# Altium footprint library Wurth_Elektronik_Passive_rev16a.PCBLIB: 810 footprints (part 38 of 51)
Each footprint in its own frame and in the unit in brackets; x right, y up, seen from the top. Pads: shape width x height; smd on the part's side, far side on the other; paste and mask are expansions set on the pad; w line width, h text height; cw(c..) or ccw(c..) is an arc to the next point about the centre after c.
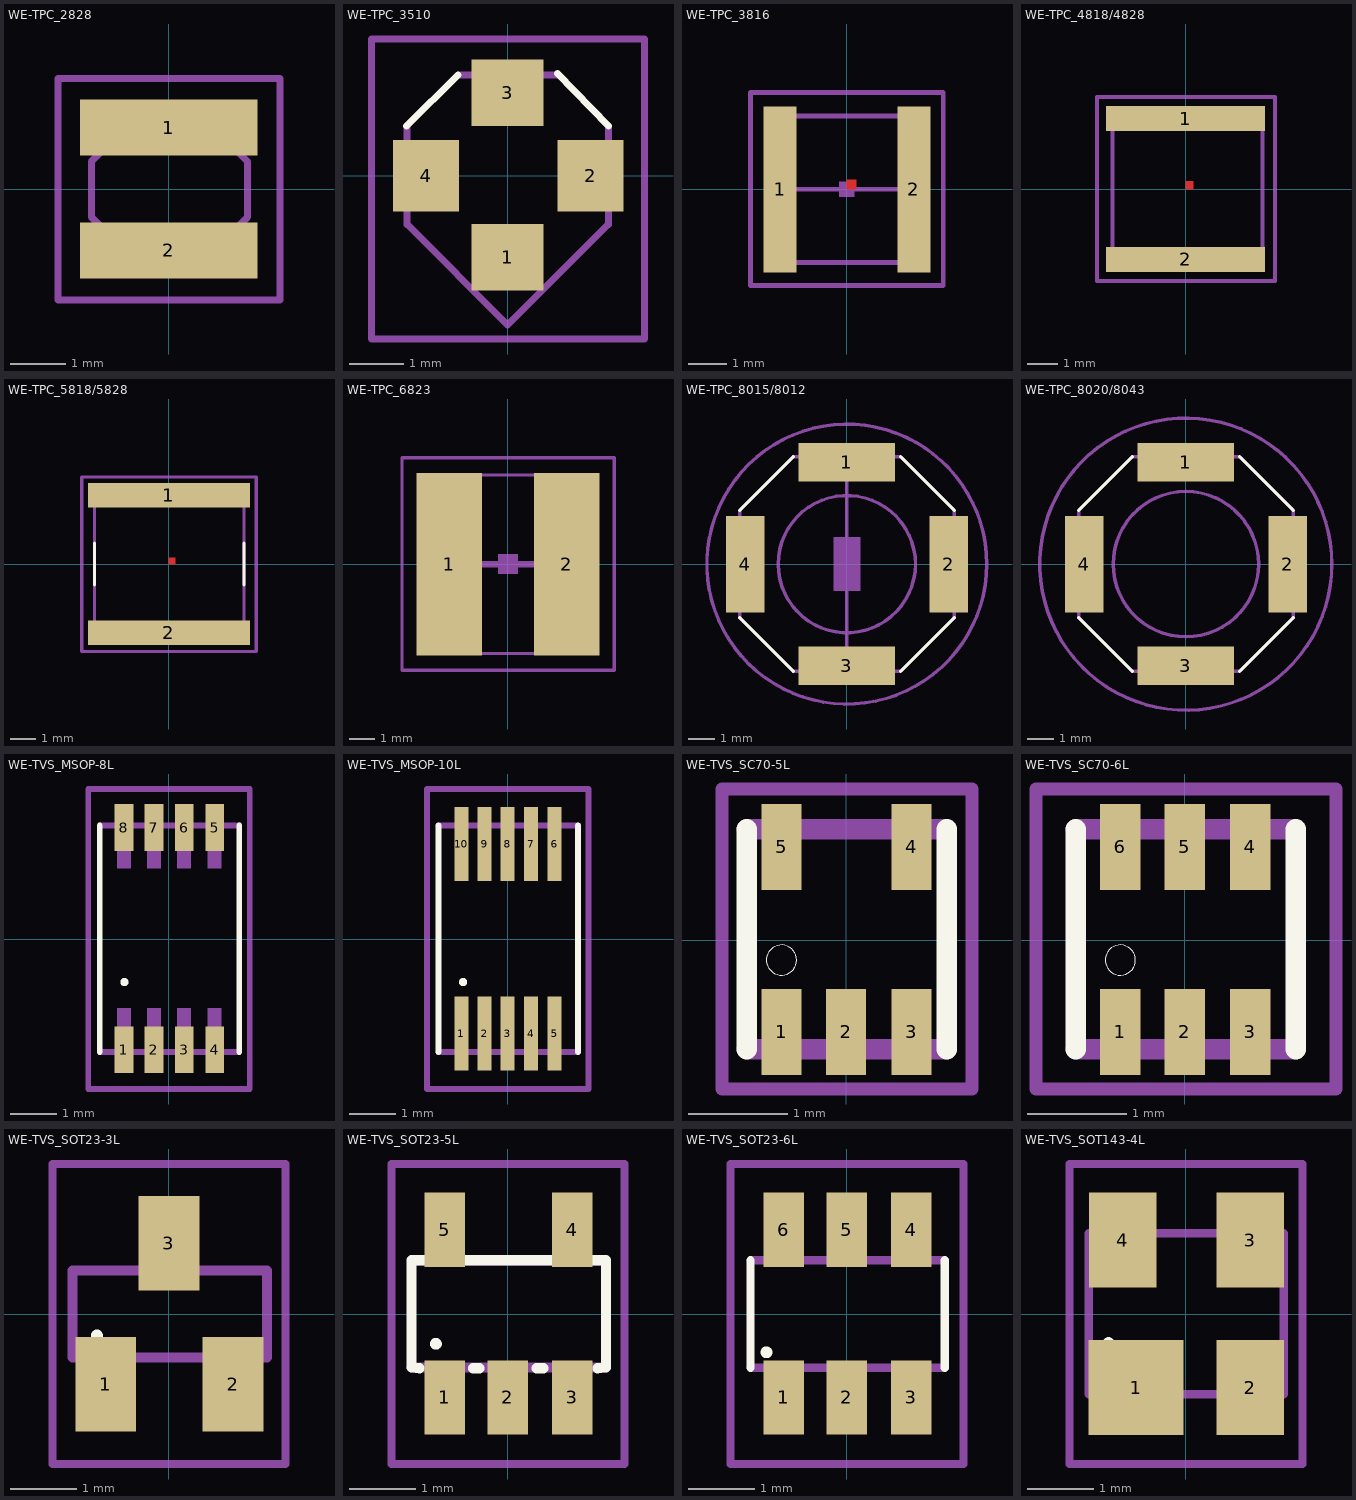
[diagram p37: the footprints below, top view; thin cyan lines are the x and y axes]

## WE-TPC_2828 [mil]
pads (2):
  rect 126x40 smd: 1(0,44) 2(0,-43.31)
Mechanical 2:
  text ">NAME" at -118.11,79 h77.5
Mechanical 4:
  text ">VALUE" at -137.8,-137.8 h77.5
Mechanical 16:
  lines w5: -55.12,-19.68 -55.12,20 -19.68,56 20,56 56,20 56,-19.68 20,-55.12 -19.68,-55.12 -55.12,-19.68
Mechanical 27:
  lines w5: -78.74,-78.74 79,-78.74 79,79 -78.74,79 -78.74,-78.74

## WE-TPC_3510 [mil]
pads (4):
  rect 52x48 smd: 1(0,-59.06) 3(0,60)
  rect 48x52 smd: 2(60,0) 4(-59.06,0)
Top Overlay:
  lines w5: -73.23,36 -35.83,73 ; 36,74 73,36 ; 73,36 73,36
Mechanical 2:
  text ">NAME" at -116.14,93 h77.5
Mechanical 4:
  text ">VALUE" at -116.14,-173.23 h77.5
Mechanical 16:
  lines w5: -72.83,-35.43 -72.83,-35.04 ; -72.83,36 -72.83,-35.04 ; -35.43,73 36,73 ; 73,-35.43 73,-35.04 ; 73,36 73,-35.04 ; -72.83,-35.04 0,-107.87 73,-35.04
Mechanical 27:
  lines w5: -98.43,-118.11 99,-118.11 99,99 -98.43,99 -98.43,-118.11

## WE-TPC_3816 [mil]
pads (2):
  rect 34x170 smd: 1(-68.15,0) 2(69,0)
Top Layer:
  region: 0,0 10,0 10,10 0,10
  region: 0,0 10,0 10,10 0,10
  region: 0,0 10,0 10,10 0,10
  region: 0,0 10,0 10,10 0,10
Top Paste:
  region: 0,0 10,0 10,10 0,10
  region: 0,0 10,0 10,10 0,10
  region: 0,0 10,0 10,10 0,10
  region: 0,0 10,0 10,10 0,10
Top Solder:
  region: 0,0 10,0 10,10 0,10
  region: 0,0 10,0 10,10 0,10
  region: 0,0 10,0 10,10 0,10
  region: 0,0 10,0 10,10 0,10
Mechanical 2:
  text ">NAME" at -150,-150 h77.5
Mechanical 4:
  text ">VALUE" at -150,100 h77.5
Mechanical 16:
  region: 8,-7.87 8,8 -7.87,8 -7.87,-7.87
  lines w5: -51.18,0 52,0 ; -74.8,-74.8 75,-74.8 75,75 -74.8,75 -74.8,-74.8
Mechanical 27:
  lines w5: -98.43,-98.43 99,-98.43 99,99 -98.43,99 -98.43,-98.43

## WE-TPC_4818/4828 [mil]
pads (2):
  rect 205x32 smd: 1(0,91) 2(0,-90.55)
Top Layer:
  region: 0,0 10,0 10,10 0,10
  region: 0,0 10,0 10,10 0,10
Top Paste:
  region: 0,0 10,0 10,10 0,10
  region: 0,0 10,0 10,10 0,10
Top Solder:
  region: 0,0 10,0 10,10 0,10
  region: 0,0 10,0 10,10 0,10
Mechanical 2:
  text ">NAME" at -142.13,-176.38 h77.5
Mechanical 4:
  text ">VALUE" at -142.13,127 h77.5
Mechanical 16:
  lines w5: 95,-94.49 -94.49,-94.49 -94.49,95 95,95 ; 99,-94.49 99,95
Mechanical 27:
  lines w5: -114.17,-118.11 115,-118.11 115,119 -114.17,119 -114.17,-118.11

## WE-TPC_5818/5828 [mil]
pads (2):
  rect 249x38 smd: 1(0,106) 2(0,-105.31)
Top Layer:
  region: 0,0 10,0 10,10 0,10
  region: 0,0 10,0 10,10 0,10
Top Overlay:
  lines w5: -114.17,-31.5 -114.17,32 ; 115,-31.5 115,32
Top Paste:
  region: 0,0 10,0 10,10 0,10
  region: 0,0 10,0 10,10 0,10
Top Solder:
  region: 0,0 10,0 10,10 0,10
  region: 0,0 10,0 10,10 0,10
Mechanical 2:
  text ">NAME" at -137.8,142 h77.5
Mechanical 4:
  text ">VALUE" at -137.8,-196.85 h77.5
Mechanical 16:
  lines w5: -114.17,-114.17 115,-114.17 115,115 -114.17,115 -114.17,-114.17
Mechanical 27:
  lines w5: -133.86,-133.86 134,-133.86 134,134 -133.86,134 -133.86,-133.86

## WE-TPC_6823 [mil]
pads (2):
  rect 103x288 smd: 1(-92.52,0) 2(93,0)
Mechanical 2:
  text ">NAME" at -150,-250 h77.5
Mechanical 4:
  text ">VALUE" at -150,200 h77.5
Mechanical 16:
  region: 16,-15.75 16,16 -15.75,16 -15.75,-15.75
  lines w5: -134.75,-140.87 135,-140.87 135,141 -134.75,141 -134.75,-140.87
  lines w10: -92.52,0 93,0
Mechanical 27:
  lines w5: -167.32,-167.32 168,-167.32 168,168 -167.32,168 -167.32,-167.32

## WE-TPC_8015/8012 [mil]
pads (4):
  rect 142x56 smd: 1(0,150) 3(0,-149.61)
  rect 56x142 smd: 2(150,0) 4(-149.61,0)
Top Overlay:
  lines w5: -157.48,-78.74 -78.74,-157.48 ; -157.48,79 -78.74,158 ; 79,-157.48 158,-78.74 ; 79,158 158,79
Mechanical 2:
  text ">NAME" at -196.85,-118.11 h77.5
Mechanical 4:
  text ">VALUE" at 197,119 h77.5
Mechanical 10:
  circle w5: c0,0 r101
Mechanical 16:
  rectangle: -19.68,-39.37 20,40
  lines w5: -157.48,-78.74 -157.48,79 ; -78.74,-157.48 79,-157.48 ; -78.74,158 79,158 ; 0,-157.48 0,158 ; 158,-78.74 158,79
Mechanical 27:
  circle w5: c0,0 r206

## WE-TPC_8020/8043 [mil]
pads (4):
  rect 142x56 smd: 1(0,150) 3(0,-149.61)
  rect 56x142 smd: 2(150,0) 4(-149.61,0)
Top Overlay:
  lines w5: -157.48,-78.74 -78.74,-157.48 ; -157.48,79 -78.74,158 ; 79,-157.48 158,-78.74 ; 79,158 158,79
Mechanical 2:
  text ">NAME" at -118.11,-236.22 h77.5
Mechanical 4:
  text ">VALUE" at -118.11,197 h77.5
Mechanical 10:
  circle w5: c0,0 r107
Mechanical 16:
  lines w5: -157.48,-78.74 -157.48,79 ; -78.74,-157.48 79,-157.48 ; -78.74,158 79,158 ; 158,-78.74 158,79
Mechanical 27:
  circle w5: c0,0 r215

## WE-TVS_MSOP-8L [mil]
pads (8):
  rect 16x40 smd: 1(-38.39,-94.49) 2(-12.8,-94.49) 3(13,-94.49) 4(39,-94.49) 5(39,95) 6(13,95) 7(-12.8,95) 8(-38.39,95)
Top Overlay:
  circle w5: c-37.99,-36.73 r1
  lines w5: -59.06,-96.46 -59.06,97 ; 60,-96.46 60,97
Mechanical 2:
  text ">NAME" at -80,-100 h77.5
Mechanical 4:
  text ">VALUE" at 130,-100 h77.5
Mechanical 16:
  rectangle: -44.29,60 -32.48,97
  rectangle: -44.29,-96.46 -32.48,-59.06
  rectangle: 33,60 45,97
  rectangle: 33,-96.46 45,-59.06
  rectangle: -18.7,60 -6.89,97
  rectangle: 7,60 19,97
  rectangle: -18.7,-96.46 -6.89,-59.06
  rectangle: 7,-96.46 19,-59.06
  lines w5: -59.06,-96.46 60,-96.46 ; -59.06,97 60,97
Mechanical 27:
  lines w5: -68.9,-127.95 69,-127.95 69,128 -68.9,128 -68.9,-127.95

## WE-TVS_MSOP-10L [mil]
pads (10):
  rect 12x63 smd: 1(-39.37,-80.71) 2(-19.68,-80.71) 3(0,-80.71) 4(20,-80.71) 5(40,-80.71) 6(40,81) 7(20,81) 8(0,81) 9(-19.68,81) 10(-39.37,81)
Top Overlay:
  circle w5: c-37.99,-36.73 r1
  lines w5: -59.06,-96.46 -59.06,97 ; 60,-96.46 60,97
Mechanical 2:
  text ">NAME" at -80,-100 h77.5
Mechanical 4:
  text ">VALUE" at 130,-100 h77.5
Mechanical 16:
  rectangle: -43.31,60 -35.43,97
  rectangle: -23.62,60 -15.75,97
  rectangle: -3.94,60 4,97
  rectangle: 16,60 24,97
  rectangle: 36,60 44,97
  rectangle: -43.31,-96.46 -35.43,-59.06
  rectangle: 36,-96.46 44,-59.06
  rectangle: -23.62,-96.46 -15.75,-59.06
  rectangle: 16,-96.46 24,-59.06
  rectangle: -3.94,-96.46 4,-59.06
  lines w5: -59.06,-96.46 60,-96.46 ; -59.06,97 60,97
Mechanical 27:
  lines w5: -68.9,-127.95 69,-127.95 69,128 -68.9,128 -68.9,-127.95

## WE-TVS_SC70-5L [mil]
pads (5):
  rect 16x34 smd: 1(-25.59,-36.42) 2(0,-36.42) 3(26,-36.42) 4(26,37) 5(-25.59,37)
Top Overlay:
  circle w0: c-25.59,-7.87 r6
  lines w8: -39.37,-43.31 -39.37,44 ; 40,-43.31 40,44
Mechanical 2:
  text ">NAME" at -55.12,67 h15.5
Mechanical 4:
  text ">VALUE" at -51.18,-77.83 h15.5
Mechanical 16:
  rectangle: 20,24 32,44
  rectangle: -31.5,24 -19.68,44
  rectangle: -31.5,-43.31 -19.68,-23.62
  rectangle: -5.91,-43.31 6,-23.62
  rectangle: 20,-43.31 32,-23.62
  lines w8: -39.37,-43.31 40,-43.31 ; -39.37,44 40,44
Mechanical 27:
  lines w5: -49.21,-59.06 50,-59.06 50,60 -49.21,60 -49.21,-59.06

## WE-TVS_SC70-6L [mil]
pads (6):
  rect 16x34 smd: 1(-25.59,-36.42) 2(0,-36.42) 3(26,-36.42) 4(26,37) 5(0,37) 6(-25.59,37)
Top Overlay:
  circle w0: c-25.59,-7.87 r6
  lines w8: -43.31,-43.31 -43.31,44 ; 44,-43.31 44,44
Mechanical 2:
  text ">NAME" at -47.24,59 h62
Mechanical 4:
  text ">VALUE" at -47.24,-97.52 h62
Mechanical 16:
  rectangle: -31.5,-43.31 -19.68,-23.62
  rectangle: -5.91,-43.31 6,-23.62
  rectangle: 20,-43.31 32,-23.62
  rectangle: 20,24 32,44
  rectangle: -5.91,24 6,44
  rectangle: -31.5,24 -19.68,44
  lines w8: -43.31,-43.31 44,-43.31 ; -43.31,44 44,44
Mechanical 27:
  lines w5: -59.06,-59.06 60,-59.06 60,60 -59.06,60 -59.06,-59.06

## WE-TVS_SOT23-3L [mil]
pads (3):
  rect 36x56 smd: 1(-37.4,-41.34) 2(38,-41.34) 3(0,42)
Top Overlay:
  circle w5: c-42.64,-12.44 r1
Mechanical 2:
  text ">NAME" at -94.69,90 h77.5
Mechanical 4:
  text ">VALUE" at -94.69,-139.84 h77.5
Mechanical 16:
  rectangle: -9,28 9,51
  rectangle: 28,-51 46,-28
  rectangle: -46,-51 -28,-28
  lines w6: -57.09,-25.59 58,-25.59 58,26 -57.09,26 -57.09,-25.59
Mechanical 27:
  lines w5: -68.9,-88.58 69,-88.58 69,89 -68.9,89 -68.9,-88.58

## WE-TVS_SOT23-5L [mil]
pads (5):
  rect 24x44 smd: 1(-37.4,-49.21) 2(0,-49.21) 3(38,-49.21) 4(38,50) 5(-37.4,50)
Top Overlay:
  circle w5: c-42.64,-17.44 r1
  lines w6: -52.28,-31.89 -57.09,-31.5 -57.09,32 ; -52.28,32 -57.09,32 ; -20.55,-31.89 -16.85,-31.89 ; 17,-31.89 21,-31.89 ; 53,-31.89 58,-31.5 58,32 ; 53,32 58,32 ; -57.09,32 58,32
Mechanical 2:
  text ">NAME" at -85,-125 h77.5
Mechanical 4:
  text ">VALUE" at 135,-125 h77.5
Mechanical 16:
  rectangle: -47.24,-59.06 -27.56,-33.46
  rectangle: -9.84,-59.06 10,-33.46
  rectangle: 28,-59.06 48,-33.46
  rectangle: 28,34 48,60
  rectangle: -47.24,34 -27.56,60
  lines w6: -57.09,-31.5 58,-31.5 ; -55.98,32 56,32
Mechanical 27:
  lines w5: -68.9,-88.58 69,-88.58 69,89 -68.9,89 -68.9,-88.58

## WE-TVS_SOT23-6L [mil]
pads (6):
  rect 24x44 smd: 1(-37.4,-49.21) 2(0,-49.21) 3(38,-49.21) 4(38,50) 5(0,50) 6(-37.4,50)
Top Overlay:
  circle w5: c-47.64,-22.44 r1
  lines w5: -57.09,-31.5 -57.09,32 ; 58,-31.5 58,32
Mechanical 2:
  text ">NAME" at -80,-125 h77.5
Mechanical 4:
  text ">VALUE" at 130,-125 h77.5
Mechanical 16:
  rectangle: -47.24,34 -27.56,60
  rectangle: 28,34 48,60
  rectangle: -10.24,33 10,59
  rectangle: -9.74,-58.54 10,-32.94
  rectangle: 28,-58.04 48,-32.44
  rectangle: -47.24,-58.54 -27.56,-32.94
  rectangle: 28,-58.54 48,-32.94
  lines w5: -57.09,-31.5 58,-31.5 ; -57.09,32 58,32
Mechanical 27:
  lines w5: -68.9,-88.58 69,-88.58 69,89 -68.9,89 -68.9,-88.58

## WE-TVS_SOT143-4L [mil]
pads (4):
  rect 56x56 smd: 1(-29.53,-43.31)
  rect 40x56 smd: 2(38,-43.31) 3(38,44) 4(-37.4,44)
Top Overlay:
  circle w5: c-45.87,-17.05 r1
Mechanical 2:
  text ">NAME" at -79.13,91 h77.5
Mechanical 4:
  text ">VALUE" at -79.13,-139.76 h77.5
Mechanical 16:
  rectangle: -46.46,24 -29.13,46
  rectangle: 30,24 47,46
  rectangle: 30,-49.21 47,-27.56
  rectangle: -46.46,-49.21 -14.17,-27.56
  lines w5: -57.48,-47.24 58,-47.24 58,48 -57.48,48 -57.48,-47.24
Mechanical 27:
  lines w5: -68.9,-88.58 69,-88.58 69,89 -68.9,89 -68.9,-88.58